# Altium footprint library LQH43MN470K03L.PcbLib: 1 footprints
Each footprint in its own frame and in the unit in brackets; x right, y up, seen from the top. Pads: shape width x height; smd on the part's side, far side on the other; paste and mask are expansions set on the pad; w line width, h text height; cw(c..) or ccw(c..) is an arc to the next point about the centre after c.
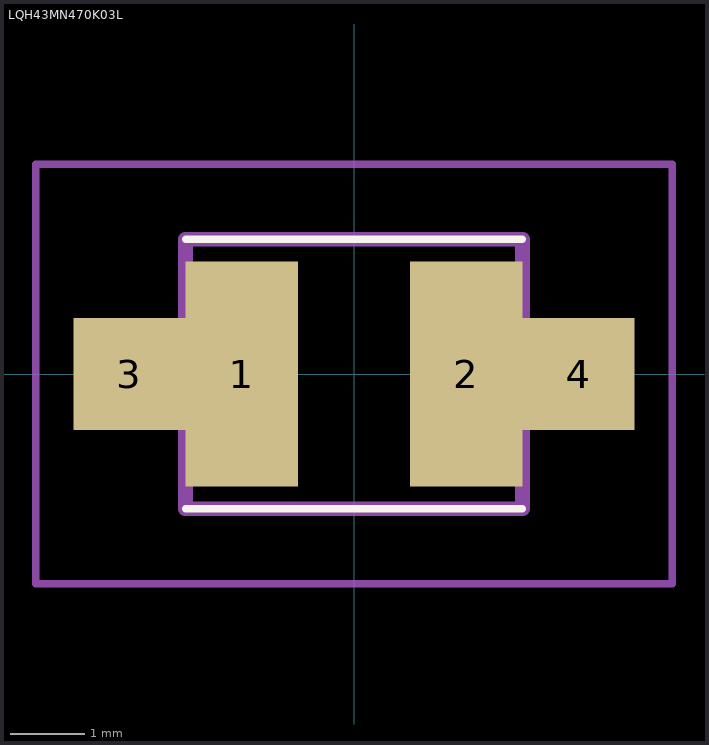
[diagram p0: the footprint, top view; thin cyan lines are the x and y axes]

## LQH43MN470K03L [mm]
pads (4):
  rect 1.5x3 smd: 1(-1.5,0) 2(1.5,0)
  rect 1.5x1.5 smd: 3(-3,0) 4(3,0)
Top Overlay:
  lines w0.1: -2.25,-1.8 2.25,-1.8 ; -2.25,1.8 2.25,1.8
Mechanical 15:
  lines w0.2: -2.25,-1.8 2.25,-1.8 2.25,1.8 -2.25,1.8 -2.25,-1.8
Mechanical 20:
  lines w0.1: -4.25,-2.8 4.25,-2.8 4.25,2.8 -4.25,2.8 -4.25,-2.8